# Altium schematic symbol library LP3882.SchLib: 1 symbol
Pins are listed as number, name and electrical type; pins without a type are passive.

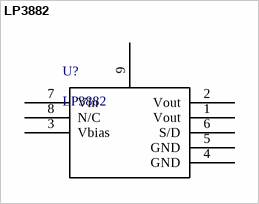
[diagram p0: symbol LP3882]

## LP3882
designator U?
pins: 1 Vout, 2 Vout, 3 Vbias, 4 GND, 5 GND, 6 S/D, 7 Vin, 8 N/C, 9